# EAGLE library part NCP3335A (library untitled)
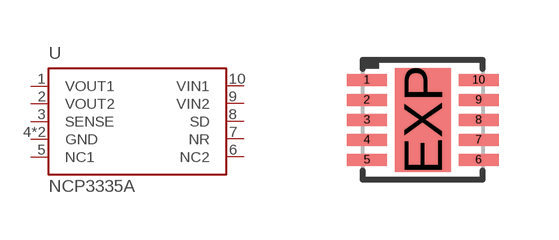
[diagram p0: symbol with the pads of DFN10-3X3; footprint DFN10-3X3]

Designator prefix -

## NCP3335A  [DFN10-3X3]
1  VOUT1
2  VOUT2
3  SENSE  pwr
4  GND  pwr
5  NC1  in
6  NC2  in
7  NR  in
8  SD  pwr
9  VIN2  pwr
10  VIN1  in
EXP  GND  pwr

## Footprint DFN10-3X3 (pad centres in mm)
10-Lead Plastic Dual Flat No Lead Package - 3x3 mm Body [DFN] Source: http://www.silabs.com/Support%20Documents/TechnicalDocs/Si7013.pdf
smd 1 x 0.3: 1 -1.4,1; 2 -1.4,0.5; 3 -1.4,0; 4 -1.4,-0.5; 5 -1.4,-1; 6 1.4,-1; 7 1.4,-0.5; 8 1.4,0; 9 1.4,0.5; 10 1.4,1
smd 1.4 x 2.6: EXP 0,0